# EAGLE library part ATTINY85 (library nfc-attiny-atecc)
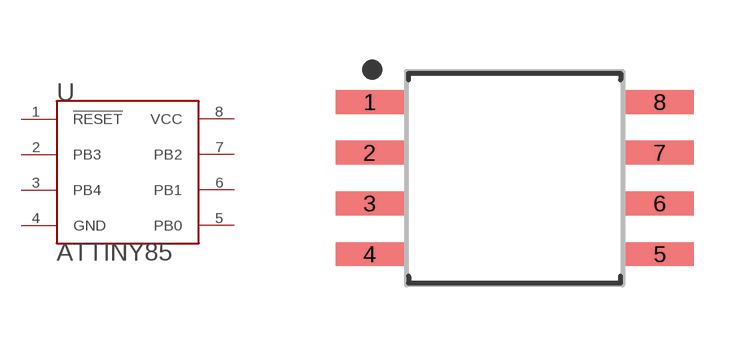
[diagram p1: symbol with the pads of SOIC127P797X215-8N; footprint SOIC127P797X215-8N]

Designator prefix U

## ATTINY85-SOIC8 (MPN: ATTINY85V-10SU)  [SOIC127P797X215-8N]
1  !RESET
2  PB3
3  PB4
4  GND
5  PB0
6  PB1
7  PB2
8  VCC

## Footprint SOIC127P797X215-8N (pad centres in mm)
8-SOIC, 1.27 mm pitch, 7.97 mm span, 5.25 X 5.30 X 2.15 mm body 8-pin SOIC package with 1.27 mm pitch, 7.97 mm span with body size 5.25 X 5.30 X 2.15 mm
smd 1.707 x 0.597: 1 -3.627,1.905; 2 -3.627,0.635; 3 -3.627,-0.635; 4 -3.627,-1.905; 5 3.627,-1.905; 6 3.627,-0.635; 7 3.627,0.635; 8 3.627,1.905